# EAGLE library part SPARKFUN-IC-MEMORY_AT25SF041 (library Bartosz.Nowakowski)
AT25SF041 4Mb Serial Flash Memory 104MHz, SPI, 8-SOIC Datasheet <http://www.adestotech.com/wp-content/uploads/DS-AT25SF041_044.pdf> SparkFun Products: SparkFun ESP8266 Thing <https://www.sparkfun.com/products/13231> SparkFun ESP8266 Thing - Dev Board <https://www.sparkfun.com/products/13711>
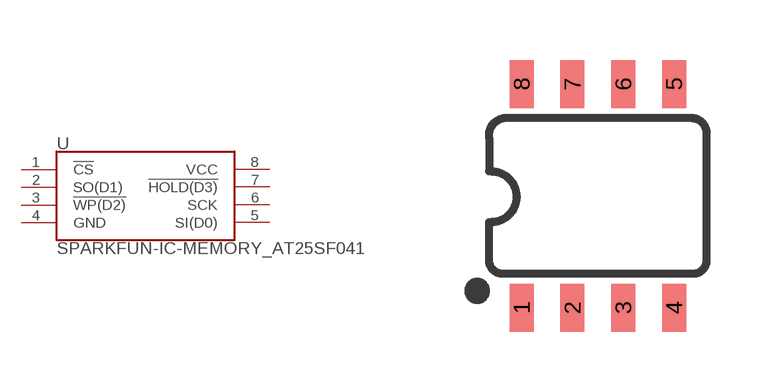
[diagram p1: symbol with the pads of SPARKFUN-IC-MEMORY_SO08; footprint SPARKFUN-IC-MEMORY_SO08]

Designator prefix U

## SPARKFUN-IC-MEMORY_AT25SF041 (PROD_ID: IC-12455; VALUE: 4MB Flash)  [SPARKFUN-IC-MEMORY_SO08]
1  !CS
2  SO(D1)
3  !WP(D2)
4  GND
5  SI(D0)
6  SCK
7  !HOLD(D3)
8  VCC

## Footprint SPARKFUN-IC-MEMORY_SO08 (pad centres in mm)
SOIC, 0.15 inch width
smd 0.6 x 1.2: 1 -1.905,-2.8; 2 -0.635,-2.8; 3 0.635,-2.8; 4 1.905,-2.8; 5 1.905,2.8; 6 0.635,2.8; 7 -0.635,2.8; 8 -1.905,2.8